# EAGLE library part AD5452YRMZ (library yb-library)
AD5452YRMZ DAC-Converter with Serial Interface in Package MSOP-8
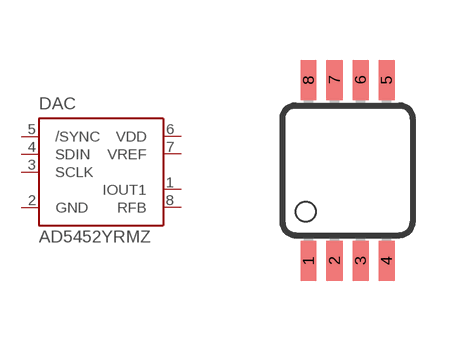
[diagram p7: symbol with the pads of MSOP08; footprint MSOP08]

Designator prefix DAC

## AD5452YRMZ  [MSOP08]
1  IOUT1  out
2  GND  pwr
3  SCLK  in
4  SDIN  in
5  /SYNC  in
6  VDD  pwr
7  VREF  pwr
8  RFB  pas

## Footprint MSOP08 (pad centres in mm)
smd 0.4 x 1: 1 -0.976,-2.263; 2 -0.326,-2.263; 3 0.324,-2.263; 4 0.974,-2.263; 5 0.974,2.262; 6 0.324,2.262; 7 -0.326,2.262; 8 -0.976,2.262